# Altium schematic symbol library PCIE.SchLib: 1 symbol
Pins are listed as number, name and electrical type; pins without a type are passive.

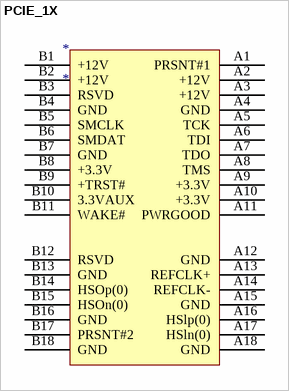
[diagram p0: symbol PCIE_1X]

## PCIE_1X
designator *
footprint PCIE_1X_EDGE
footprint NWE18DHHN-T931 (Sullins PCIe 1x through hole)
pins: A1 PRSNT#1 (power), A2 +12V (power), A3 +12V (power), A4 GND (power), A5 TCK (power), A6 TDI (power), A7 TDO (power), A8 TMS (power), A9 +3.3V (power), A10 +3.3V (power), A11 PWRGOOD (power), A12 GND (power), A13 REFCLK+ (power), A14 REFCLK- (power), A15 GND (power), A16 HSlp(0) (power), A17 HSln(0) (power), A18 GND (power), B1 +12V (power), B2 +12V (power), B3 RSVD (power), B4 GND (power), B5 SMCLK (power), B6 SMDAT (power), B7 GND (power), B8 +3.3V (power), B9 +TRST# (power), B10 3.3VAUX (power), B11 WAKE# (power), B12 RSVD (power), B13 GND (power), B14 HSOp(0) (power), B15 HSOn(0) (power), B16 GND (power), B17 PRSNT#2 (power), B18 GND (power)